# EAGLE library part RS485_RIEGEL (library roboternetz_definitionen)
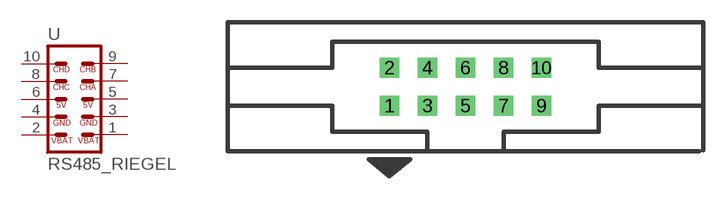
[diagram p10: symbol with the pads of 3M_10; footprint 3M_10]

Designator prefix -

## RS485_RIEGEL  [3M_10]
1  1_VBAT  pas
2  2_VBAT  pas
3  3_GND  pas
4  4_GND  pas
5  5_5V  pas
6  6_5V  pas
7  7_CHA  pas
8  8_CHC  pas
9  9_CHB  pas
10  10_CHD  pas

## Footprint 3M_10 (pad centres in mm)
3M
drill 0.813 square: 1 -5.08,-1.27; 2 -5.08,1.27; 3 -2.54,-1.27; 4 -2.54,1.27; 5 0,-1.27; 6 0,1.27; 7 2.54,-1.27; 8 2.54,1.27; 9 5.08,-1.27; 10 5.08,1.27